# EAGLE library part USB251XB (library geusebio)
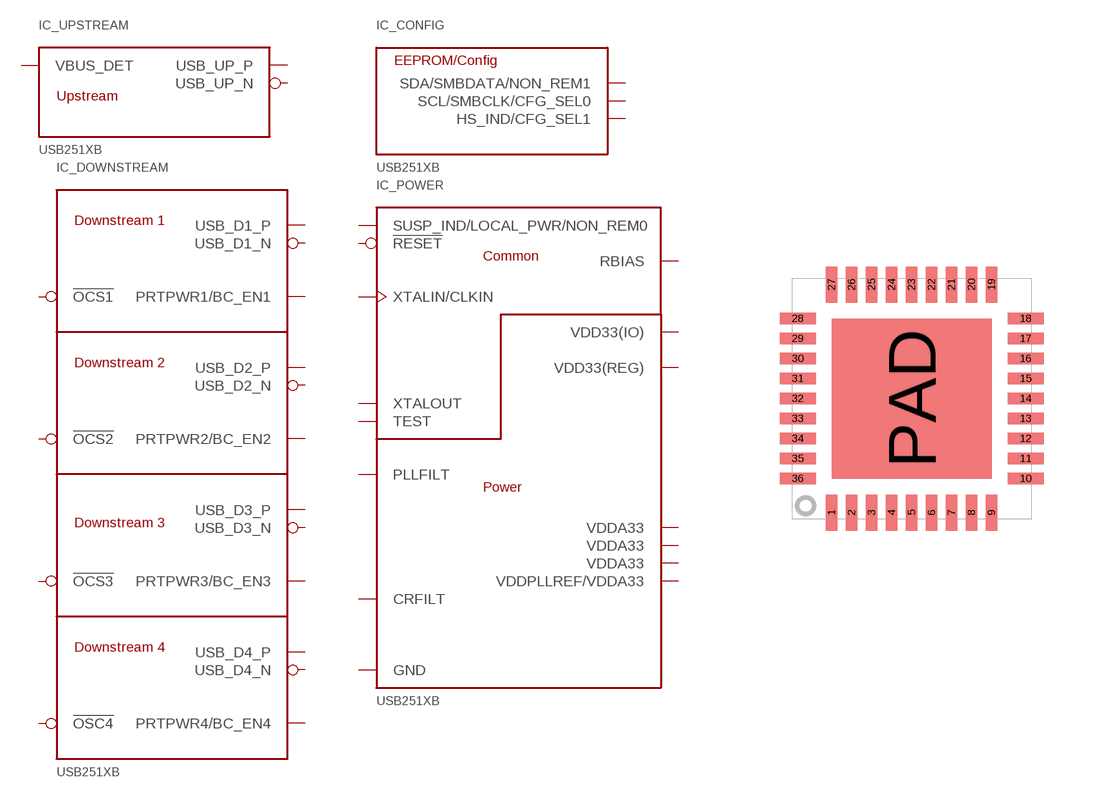
[diagram p15: symbol with the pads of QFN36-CENTRE-MASK; footprint QFN36-CENTRE-MASK]

Designator prefix IC; gates _UPSTREAM=USB251XB_UPSTREAM _DOWNSTREAM=USB251XB_DOWNSTREAM _CONFIG=USB251XB_EEPROM _POWER=USB251XB_POWER

## USB251XB  [QFN36-CENTRE-MASK]
1  _DOWNSTREAM:USB_D1_N
2  _DOWNSTREAM:USB_D1_P
3  _DOWNSTREAM:USB_D2_N
4  _DOWNSTREAM:USB_D2_P
5  _POWER:VDDA33  pwr
6  _DOWNSTREAM:USB_D3_N
7  _DOWNSTREAM:USB_D3_P
8  _DOWNSTREAM:USB_D4_N
9  _DOWNSTREAM:USB_D4_P
10  _POWER:VDDA33  pwr
11  _POWER:TEST
12  _DOWNSTREAM:PRTPWR1/BC_EN1
13  _DOWNSTREAM:!OCS1  in
14  _POWER:CRFILT
15  _POWER:VDD33(REG)  pwr
16  _DOWNSTREAM:PRTPWR2/BC_EN2
17  _DOWNSTREAM:!OCS2  in
18  _DOWNSTREAM:PRTPWR3/BC_EN3
19  _DOWNSTREAM:!OCS3  in
20  _DOWNSTREAM:PRTPWR4/BC_EN4
21  _DOWNSTREAM:!OSC4  in
22  _CONFIG:SDA/SMBDATA/NON_REM1
23  _POWER:VDD33(IO)  pwr
24  _CONFIG:SCL/SMBCLK/CFG_SEL0
25  _CONFIG:HS_IND/CFG_SEL1
26  _POWER:!RESET
27  _UPSTREAM:VBUS_DET
28  _POWER:SUSP_IND/LOCAL_PWR/NON_REM0
29  _POWER:VDDA33  pwr
30  _UPSTREAM:USB_UP_N
31  _UPSTREAM:USB_UP_P
32  _POWER:XTALOUT
33  _POWER:XTALIN/CLKIN
34  _POWER:PLLFILT
35  _POWER:RBIAS
36  _POWER:VDDPLLREF/VDDA33  pwr
PAD  _POWER:GND  pwr

## Footprint QFN36-CENTRE-MASK (pad centres in mm)
smd 0.28 x 0.9: 1 -2,-2.85; 2 -1.5,-2.85; 3 -1,-2.85; 4 -0.5,-2.85; 5 0,-2.85; 6 0.5,-2.85; 7 1,-2.85; 8 1.5,-2.85; 9 2,-2.85; 19 2,2.85; 20 1.5,2.85; 21 1,2.85; 22 0.5,2.85; 23 0,2.85; 24 -0.5,2.85; 25 -1,2.85; 26 -1.5,2.85; 27 -2,2.85
smd 0.9 x 0.28: 10 2.85,-2; 11 2.85,-1.5; 12 2.85,-1; 13 2.85,-0.5; 14 2.85,0; 15 2.85,0.5; 16 2.85,1; 17 2.85,1.5; 18 2.85,2; 28 -2.85,2; 29 -2.85,1.5; 30 -2.85,1; 31 -2.85,0.5; 32 -2.85,0; 33 -2.85,-0.5; 34 -2.85,-1; 35 -2.85,-1.5; 36 -2.85,-2
smd 4 x 4: PAD 0,0